# Altium schematic symbol library MOSFET,N Ch,900V,8A.Schlib: 1 symbol
Pins are listed as number, name and electrical type; pins without a type are passive.

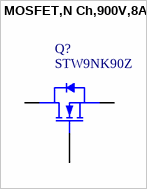
[diagram p0: symbol MOSFET,N Ch,900V,8A]

## MOSFET,N Ch,900V,8A
designator Q?, comment STW9NK90Z
pins: 1 G, 3 S, 4 D